# EAGLE library part DIODE_SCHOTTKY_ARRAY-4 (library passives)
Array of 4 Schottky Diodes Example part: RB521ZS8A30TE61CT-ND
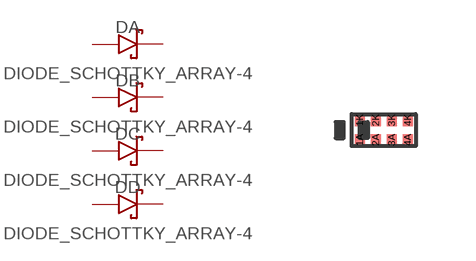
[diagram p1: symbol with the pads of HMD8; footprint HMD8]

Designator prefix D; gates A=DIODE_SCHOTTKY B=DIODE_SCHOTTKY C=DIODE_SCHOTTKY D=DIODE_SCHOTTKY

## DIODE_SCHOTTKY_ARRAY-4HMD8 (DIGIKEY: RB521ZS8A30TE61CT-ND; MANUFACTURER: Rohm Semiconductor; MPN: RB521ZS8A30TE61)  [HMD8]
1A  A:ANODE
1K  A:CATHODE
2A  B:ANODE
2K  B:CATHODE
3A  C:ANODE
3K  C:CATHODE
4A  D:ANODE
4K  D:CATHODE

## Footprint HMD8 (pad centres in mm)
HMD8 Possibly ROHM-specific pacakge Drawn from http://rohmfs.rohm.com/en/products/databook/datasheet/discrete/diode/schottky_barrier/rb521zs8a30.pdf DigiKey RB521ZS8A30TE61CT-ND
smd 0.25 x 0.3: 1A -0.6,-0.25; 1K -0.6,0.25; 2A -0.2,-0.25; 2K -0.2,0.25; 3A 0.2,-0.25; 3K 0.2,0.25; 4A 0.6,-0.25; 4K 0.6,0.25